# Altium schematic symbol library CON_3P.SchLib: 1 symbol
Pins are listed as number, name and electrical type; pins without a type are passive.

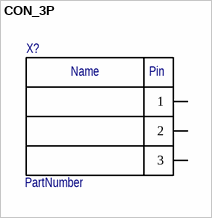
[diagram p0: symbol CON_3P]

## CON_3P
designator X?  (value not drawn)
Connector 3 pin; PartNumber: PartNumber
pins: 1, 2, 3
text: Name; Pin